# Altium schematic symbol library B0505-2W.SchLib: 1 symbol
Pins are listed as number, name and electrical type; pins without a type are passive.

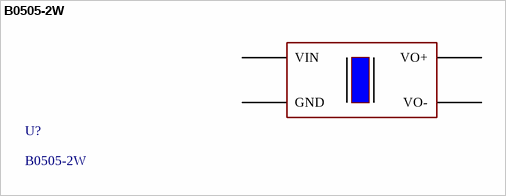
[diagram p0: symbol B0505-2W]

## B0505-2W
designator U?
footprint B0505-2W
pins: GND, VIN, VO+, VO-